# EAGLE library part 615006138421 (library WR-MJ)
WR-MJ Cat 3 Modular Jacks – THT Characteristics Shieldingless and Shielded with EMI-Spring option Optional LEDs in various sequences Vertical and Horizontal orientation Stacked and assembled configurations Tray Packaging Properties PoE++ Compatible up to 100W (IEEE 802.3bt) UL and cULus-Certified UL94-V0 insulator material Ethernet Category 3 – Category 5 under conditions Applications Networks Internet of Things mart Buildings <https://www.we-online.com/components/media/o863419v209%20multi-WR-MJTH-615002138421.jpg> Details see: www.we-online.com/en/components/products/WR_MJ_MODULAR_JACKS_THT <www.we-online.com/catalog/WR_MJ_MODULAR_JACKS_THT/?utm_source=eagle_model&utm_medium=description_link&utm_campaign=eisos_eagle> Updated by Yingchun Shan 2020-01-06 2020(C) Würth Elektronik
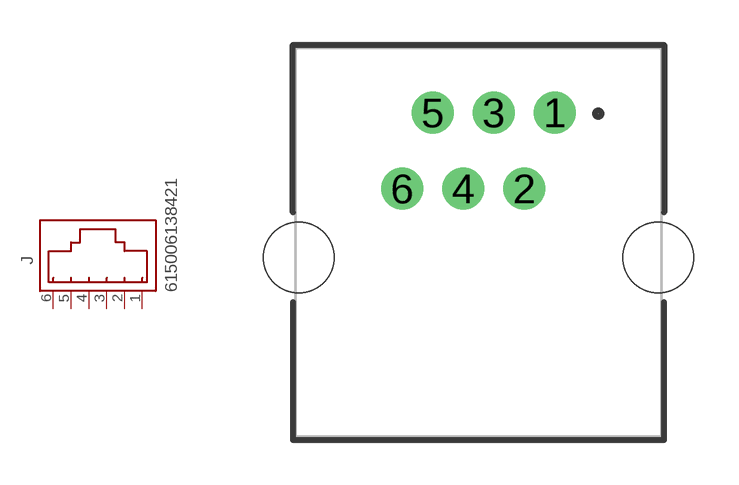
[diagram p10: symbol with the pads of 615006138421; footprint 615006138421]

Designator prefix J

## 615006138421 (DATASHEET-URL: https://www.we-online.com/redexpert/spec/615006138421?ae; EMI: No; LED: /; MOUNT: THT; PART-NUMBER: 615006138421; SIZE: Horizontal; TAB: Up; VALUE: 615006138421; XPXC: 6P6C)  [615006138421]
1  1  pas
2  2  pas
3  3  pas
4  4  pas
5  5  pas
6  6  pas

## Footprint 615006138421 (pad centres in mm)
WR-MJ Horizontal Plastic 6P6C Modular Jack Tab Up, 6 Pins
drill 0.9: 1 2.55,4.34; 2 1.53,1.8; 3 0.51,4.34; 4 -0.51,1.8; 5 -1.53,4.34; 6 -2.55,1.8
hole 2.36 at -6,-0.5
hole 2.36 at 6,-0.5